# Altium footprint library PcbLib1.PcbLib: 5 footprints
Each footprint in its own frame and in the unit in brackets; x right, y up, seen from the top. Pads: shape width x height; smd on the part's side, far side on the other; paste and mask are expansions set on the pad; w line width, h text height; cw(c..) or ccw(c..) is an arc to the next point about the centre after c.
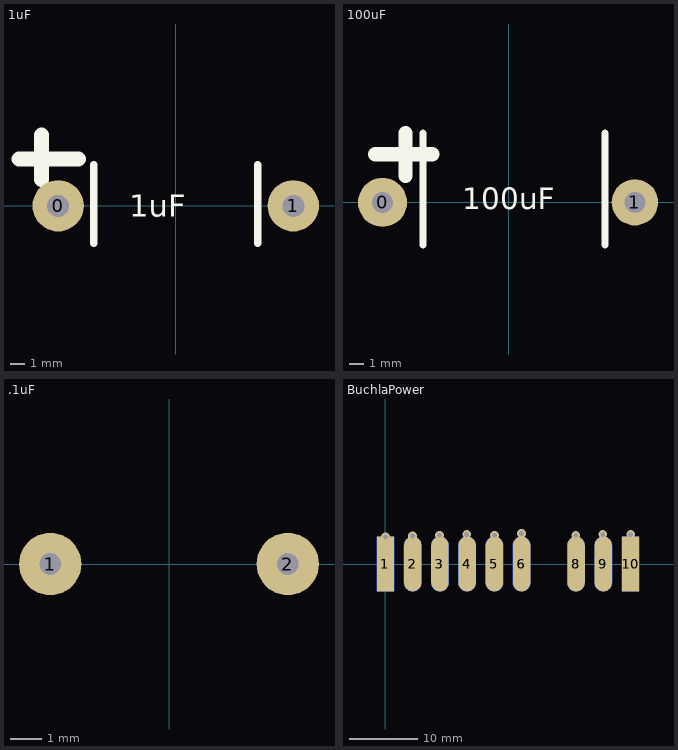
[diagram p0: the footprints below, top view; thin cyan lines are the x and y axes]

## 1uF [mm]
pads (2):
  round 3.5 hole 1.5: 0(-8,0) 1(8,0)
Top Overlay:
  lines w0.5: -5.588,-2.54 -5.588,2.794 ; 5.588,-2.54 5.588,2.794
  lines w1.016: -10.668,3.175 -6.604,3.175 ; -9.144,1.778 -9.144,4.826
  text "1uF" at -3.175,-0.762 h1.52

## 100uF [mm]
pads (2):
  round 3.5 hole 1.5: 0(-9,0)
  round 3.3 hole 1.5: 1(9,0)
Top Overlay:
  lines w0.5: -6.096,-3.048 -6.096,4.953 ; 6.858,-3.048 6.858,4.953
  lines w1.016: -9.525,3.429 -5.461,3.429 ; -7.366,1.905 -7.366,4.953
  text "100uF" at -3.302,-0.508 h1.52

## .1uF [mm]
pads (2):
  round 2 hole 0.7: 1(-3.81,0) 2(3.81,0)
Top Overlay:
  text ".1uF" at -2.54,-0.635 h1.52

## Buchla EC [mil]

## BuchlaPower [mil]
pads (18):
  rect 100x315 smd: 1(0,0) 10(1404,0)
  rect 100x315 smd far side: 1(0,0) 10(1404,0)
  oval 100x315 smd: 2(156,0) 3(312,0) 4(468,0) 5(624,0) 6(780,0) 8(1092,0) 9(1248,0)
  oval 100x315 smd far side: 2(156,0) 3(312,0) 4(468,0) 5(624,0) 6(780,0) 8(1092,0) 9(1248,0)
via 0,155 diameter 50 hole 28
via 155,160 diameter 50 hole 28
via 310,165 diameter 50 hole 28
via 465,170 diameter 50 hole 28
via 1245,170 diameter 50 hole 28
via 1405,170 diameter 50 hole 28
via 1090,165 diameter 50 hole 28
via 780,175 diameter 50 hole 28
via 625,165 diameter 50 hole 28